# Altium schematic symbol library Schlib1.SchLib: 3 symbols
Pins are listed as number, name and electrical type; pins without a type are passive.

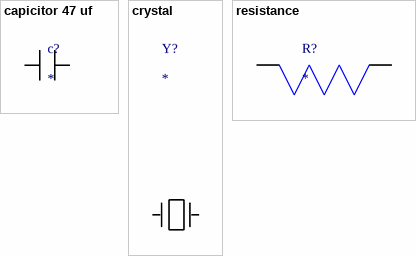
[diagram p0: symbols capicitor 47 uf to resistance]

## capicitor 47 uf
designator c?
footprint capacitor
pins: 1, 2

## crystal
designator Y?
Parameter 4: *
footprint crystal
pins: 1, 2

## resistance
designator R?
footprint resistance
pins: 1, 2